# EAGLE library part SKY65111 (library RF)
IC AMP INGAP 600-110MHZ 12-QFN Auto generated by make-symbol-device-package-bsdl.ulp Rev. 43 Source:
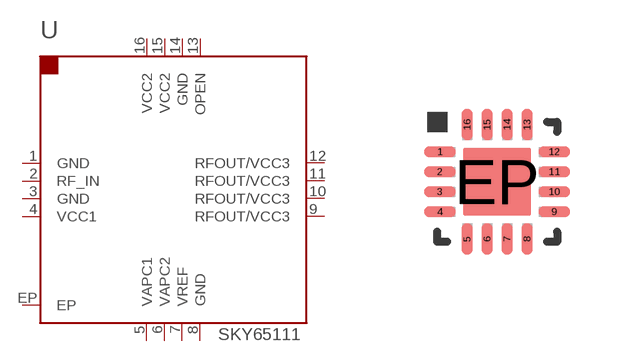
[diagram p0: symbol with the pads of QFN-16-EP; footprint QFN-16-EP]

Designator prefix U

## SKY65111 (PARTNO: 01-100480-00)  [QFN-16-EP]
1  GND  pwr
2  RF_IN  in
3  GND  pwr
4  VCC1  pwr
5  VAPC1  in
6  VAPC2  in
7  VREF  in
8  GND  pwr
9  RFOUT/VCC3
10  RFOUT/VCC3
11  RFOUT/VCC3
12  RFOUT/VCC3
13  OPEN  nc
14  GND  pwr
15  VCC2  pwr
16  VCC2  pwr
EP  EP  pwr

## Footprint QFN-16-EP (pad centres in mm)
QFN-16-EP Auto generated by make-symbol-device-package-bsdl.ulp Rev. 43
smd 0.78 x 0.26: 1 -1.43,0.75; 2 -1.43,0.25; 3 -1.43,-0.25; 4 -1.43,-0.75; 9 1.43,-0.75; 10 1.43,-0.25; 11 1.43,0.25; 12 1.43,0.75
smd 0.26 x 0.78: 5 -0.75,-1.43; 6 -0.25,-1.43; 7 0.25,-1.43; 8 0.75,-1.43; 13 0.75,1.43; 14 0.25,1.43; 15 -0.25,1.43; 16 -0.75,1.43
smd 1.7 x 1.7: EP 0,0